# Altium footprint library MGH2805.PcbLib: 1 footprints
Each footprint in its own frame and in the unit in brackets; x right, y up, seen from the top. Pads: shape width x height; smd on the part's side, far side on the other; paste and mask are expansions set on the pad; w line width, h text height; cw(c..) or ccw(c..) is an arc to the next point about the centre after c.
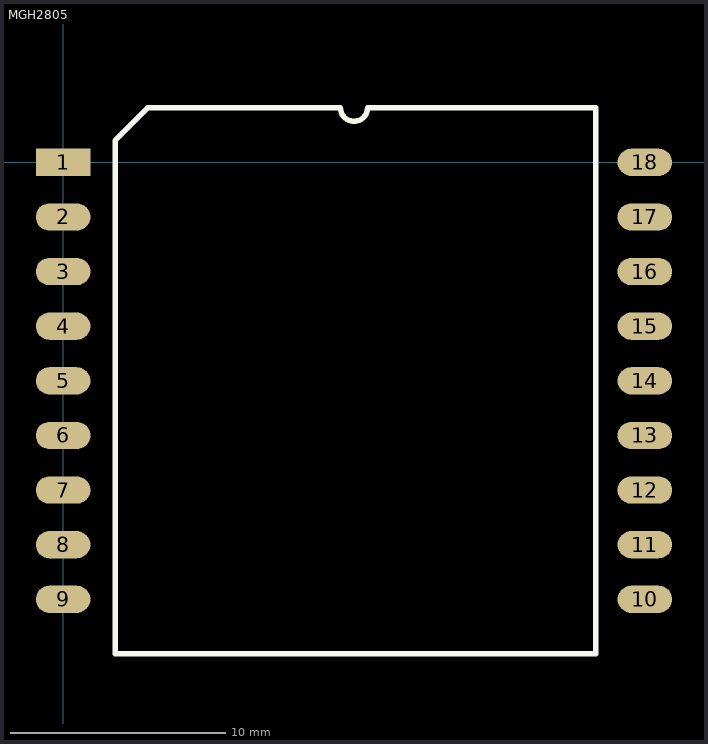
[diagram p0: the footprint, top view; thin cyan lines are the x and y axes]

## MGH2805 [mil]
pads (18):
  rect 100x50 smd: 1(0,0)
  oval 100x50 smd: 2(0,-100) 3(0,-200) 4(0,-300) 5(0,-400) 6(0,-500) 7(0,-600) 8(0,-700) 9(0,-800) 10(1065,-800) 11(1065,-700) 12(1065,-600) 13(1065,-500) 14(1065,-400) 15(1065,-300) 16(1065,-200) 17(1065,-100) 18(1065,0)
Top Overlay:
  lines w10: 95,-900 95,40 155,100 507.5,100 ccw(c532.5,100) 557.5,100 975,100 975,-900 95,-900
3D body: height 269.69, standoff 19.68, extent 95,-900 975,100